# EAGLE library part LME49830 (library LME49830_1)
Mono High Fidelity 200 Volt MOSFET Power Amplifier Input Stage with Mute Datasheet: http://www.ti.com/lit/ds/symlink/lme49830.pdf
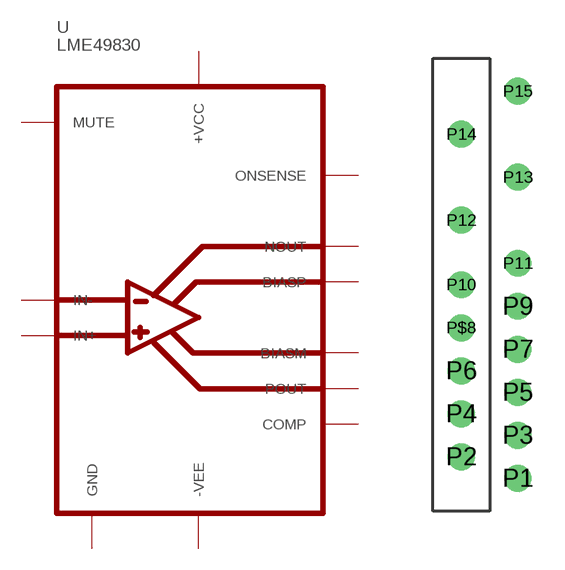
[diagram p0: symbol with the pads of NDN0015A; footprint NDN0015A]

Designator prefix U

## LME49830  [NDN0015A]
P2  MUTE
P3  GND
P4  IN+
P5  IN-
P6  COMP
P10  -VEE  pwr
P11  BIASM
P12  BIASP
P13  POUT
P14  NOUT
P15  +VCC  pas
P$8  ONSENSE

## Footprint NDN0015A (pad centres in mm)
.965 and 1.93 pitch
drill 0.7: P1 5.08,-8.685; P2 2.54,-7.72; P3 5.08,-6.755; P4 2.54,-5.79; P5 5.08,-4.825; P6 2.54,-3.86; P7 5.08,-2.895; P9 5.08,-0.965; P10 2.54,0; P11 5.08,0.965; P12 2.54,2.895; P13 5.08,4.825; P14 2.54,6.755; P15 5.08,8.685; P$8 2.54,-1.93